# Altium footprint library BoardA.PcbLib: 9 footprints
Each footprint in its own frame and in the unit in brackets; x right, y up, seen from the top. Pads: shape width x height; smd on the part's side, far side on the other; paste and mask are expansions set on the pad; w line width, h text height; cw(c..) or ccw(c..) is an arc to the next point about the centre after c.
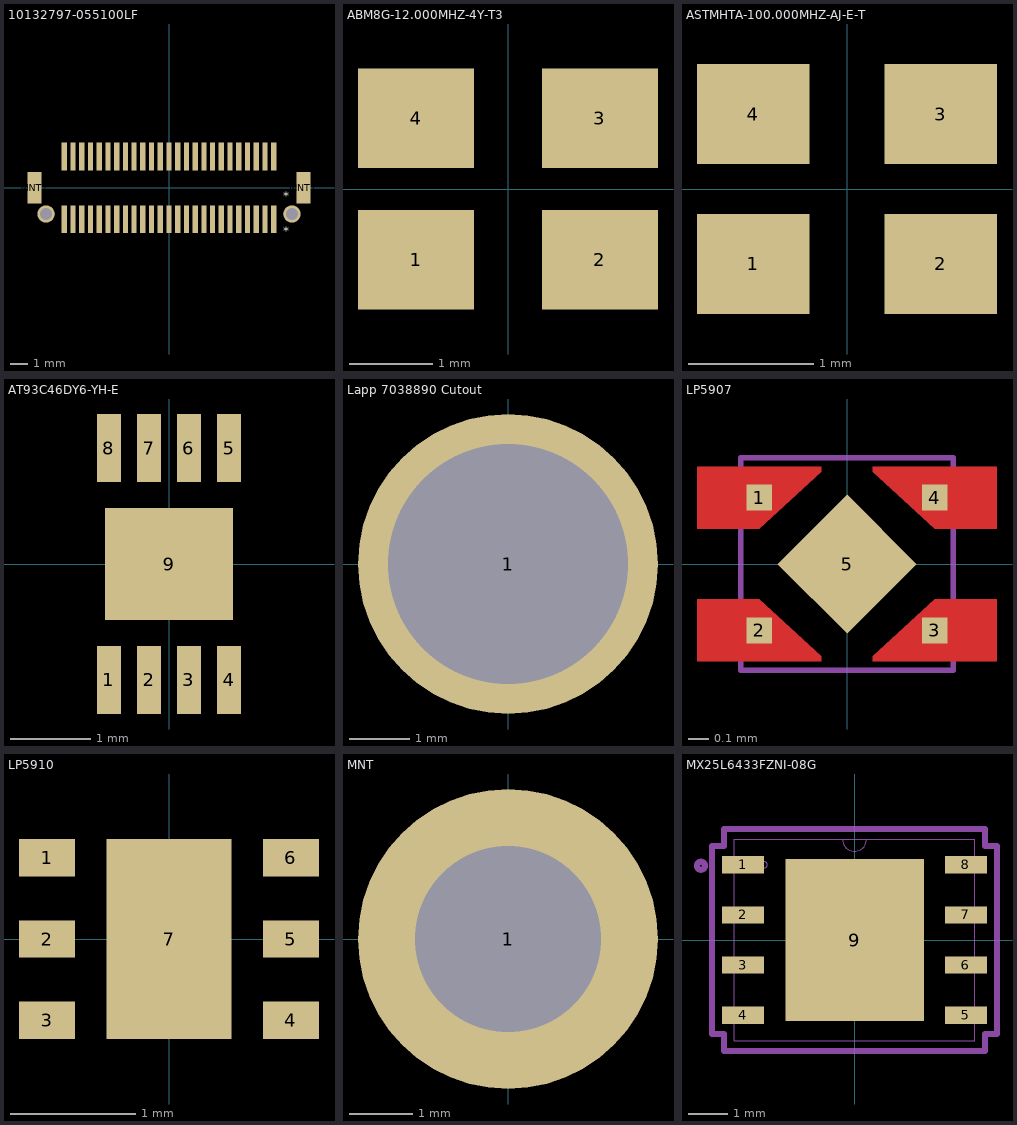
[diagram p0: the footprints below, top view; thin cyan lines are the x and y axes]

## 10132797-055100LF [mm]
pads (54):
  rect 0.3x1.6 smd: 1(6,-1.8) 2(5.5,-1.8) 3(5,-1.8) 4(4.5,-1.8) 5(4,-1.8) 6(3.5,-1.8) 7(3,-1.8) 8(2.5,-1.8) 9(2,-1.8) 10(1.5,-1.8) 11(1,-1.8) 12(0.5,-1.8) 13(0,-1.8) 14(-0.5,-1.8) 15(-1,-1.8) 16(-1.5,-1.8) 17(-2,-1.8) 18(-2.5,-1.8) 19(-3,-1.8) 20(-3.5,-1.8) 21(-4,-1.8) 22(-4.5,-1.8) 23(-5,-1.8) 24(-5.5,-1.8) 25(-6,-1.8) 26(6,1.8) 27(5.5,1.8) 28(5,1.8) 29(4.5,1.8) 30(4,1.8) 31(3.5,1.8) 32(3,1.8) 33(2.5,1.8) 34(2,1.8) 35(1.5,1.8) 36(1,1.8) 37(0.5,1.8) 38(0,1.8) 39(-0.5,1.8) 40(-1,1.8) 41(-1.5,1.8) 42(-2,1.8) 43(-2.5,1.8) 44(-3,1.8) 45(-3.5,1.8) 46(-4,1.8) 47(-4.5,1.8) 48(-5,1.8) 49(-5.5,1.8) 50(-6,1.8)
  round 1 hole 0.7: MNT1(7.05,-1.5) MNT2(-7.05,-1.5)
  rect 0.8x1.8 smd: MNT1(7.7,0) MNT2(-7.7,0)
Top Overlay:
  text "*" at 6.9,-0.733 h0.5
  text "*" at 6.9,-2.733 h0.5
3D body "10132797-055100LF.step": height 4.3, standoff -0.5, extent -7.75,-2.31 7.75,2.29

## ABM8G-12.000MHZ-4Y-T3 [mil]
pads (4):
  rect 55x47 smd: 1(-43.5,-33.5) 2(43.5,-33.5) 3(43.5,33.5) 4(-43.5,33.5)
3D body "ABM8G-12.000MHZ-4Y-T3.STEP": height 39.37, standoff 0, extent -62.98,-49.21 63,49.22

## ASTMHTA-100.000MHZ-AJ-E-T [mm]
pads (4):
  rect 0.9x0.8 smd: 1(-0.75,-0.6) 2(0.75,-0.6) 3(0.75,0.6) 4(-0.75,0.6)
3D body "ASTMHTA-100-000MHZ-AJ-E-T.step": height 0.75, standoff 0, extent -1,-0.8 1,0.8

## AT93C46DY6-YH-E [mm]
pads (9):
  rect 0.3x0.85 smd: 1(-0.75,-1.45) 2(-0.25,-1.45) 3(0.25,-1.45) 4(0.75,-1.45) 5(0.75,1.45) 6(0.25,1.45) 7(-0.25,1.45) 8(-0.75,1.45)
  rect 1.6x1.4 smd: 9(0,0)
3D body "AT93C46DY6-YH-E.step": height 0.6, standoff 0, extent -1,-1.5 1,1.5

## Lapp 7038890 Cutout [mm]
pads (1):
  round 5 hole 4: 1(0,0)

## LP5907 [mil]
pads (5):
  rect 5x5 smd: 1(-16.93,12.8) 2(-16.93,-12.8) 3(16.93,-12.8) 4(16.93,12.8)
  rect 19x19 smd rot 45 paste-9.5 mask+0: 5(0,0)
Top Layer:
  region: -4.93,-17.8 -4.93,-18.8 -28.93,-18.8 -28.93,-6.8 -16.93,-6.8
  region: 0,9.5
  region: 0,-9.5
  region: 4.93,-17.8 4.93,-18.8 28.93,-18.8 28.93,-6.8 16.93,-6.8
  region: 4.93,17.8 4.93,18.8 28.93,18.8 28.93,6.8 16.93,6.8
  region: -4.93,17.8 -4.93,18.8 -28.93,18.8 -28.93,6.8 -16.93,6.8
Top Solder:
  region: 0,9.5
  region: 0,-9.5
Mechanical 13:
  lines w1: -20.5,-20.5 20.5,-20.5 20.5,20.5 -20.5,20.5 -20.5,-20.5
  text "*" at -23.45,20.26 h3.94
3D body "LP590712QDQNRQ1.stp": height 14.39, standoff 0.21, extent -19.69,-19.68 19.68,19.69

## LP5910 [mm]
pads (7):
  rect 0.45x0.3 smd: 1(-0.975,0.65) 2(-0.975,0) 3(-0.975,-0.65) 4(0.975,-0.65) 5(0.975,0) 6(0.975,0.65)
  rect 1x1.6 smd: 7(0,0)
3D body "LP5910-18DRVR.step": height 0.8, standoff 0, extent -1,-1 1,1

## MNT [mil]
pads (1):
  round 187.5 hole 116: 1(0,0)

## MX25L6433FZNI-08G [mil]
pads (9):
  rect 42x17 smd paste+0 mask+0: 1(-111,75) 2(-111,25) 3(-111,-25) 4(-111,-75) 5(111,-75) 6(111,-25) 7(111,25) 8(111,75)
  rect 138x161 smd paste+0 mask+0: 9(0,0)
Top Paste:
  region: -3.94,76.56 -65.06,76.56 -65.06,30.77 -3.94,30.77
  region: -3.94,22.9 -65.06,22.9 -65.06,-22.9 -3.94,-22.9
  region: -3.94,-30.77 -65.06,-30.77 -65.06,-76.56 -3.94,-76.56
  region: 65.06,76.56 3.94,76.56 3.94,30.77 65.06,30.77
  region: 65.06,22.9 3.94,22.9 3.94,-22.9 65.06,-22.9
  region: 65.06,-30.77 3.94,-30.77 3.94,-76.56 65.06,-76.56
Mechanical 13:
  circle w0: c-90,75 r3
  circle w6: c-153,74 r4
  lines w0: -12,100.5 ccw(c0,100.5) 12,100.5
  lines w1: -120,-100.5 120,-100.5 120,100.5 -120,100.5 -120,-100.5
Mechanical 15:
  lines w6: -142,-93.5 -142,93.5 -130,93.5 -130,110.5 130,110.5 130,93.5 142,93.5 142,-93.5 130,-93.5 130,-110.5 -130,-110.5 -130,-93.5 -142,-93.5
3D body: height 10, standoff 0, extent 0,0 10,10
3D body "MX25L3233FZNI-08Q.step": height 32.09, standoff 0, extent -120,-100.51 120,100.52